# EAGLE library part XCV200ES_BG352 (library xilinx-xcv)
xcv200es_bg352 edit this description Auto generated by make-symbol-device-package-bsdl.ulp Rev. 26 Source: xcv200es_bg352.bsd
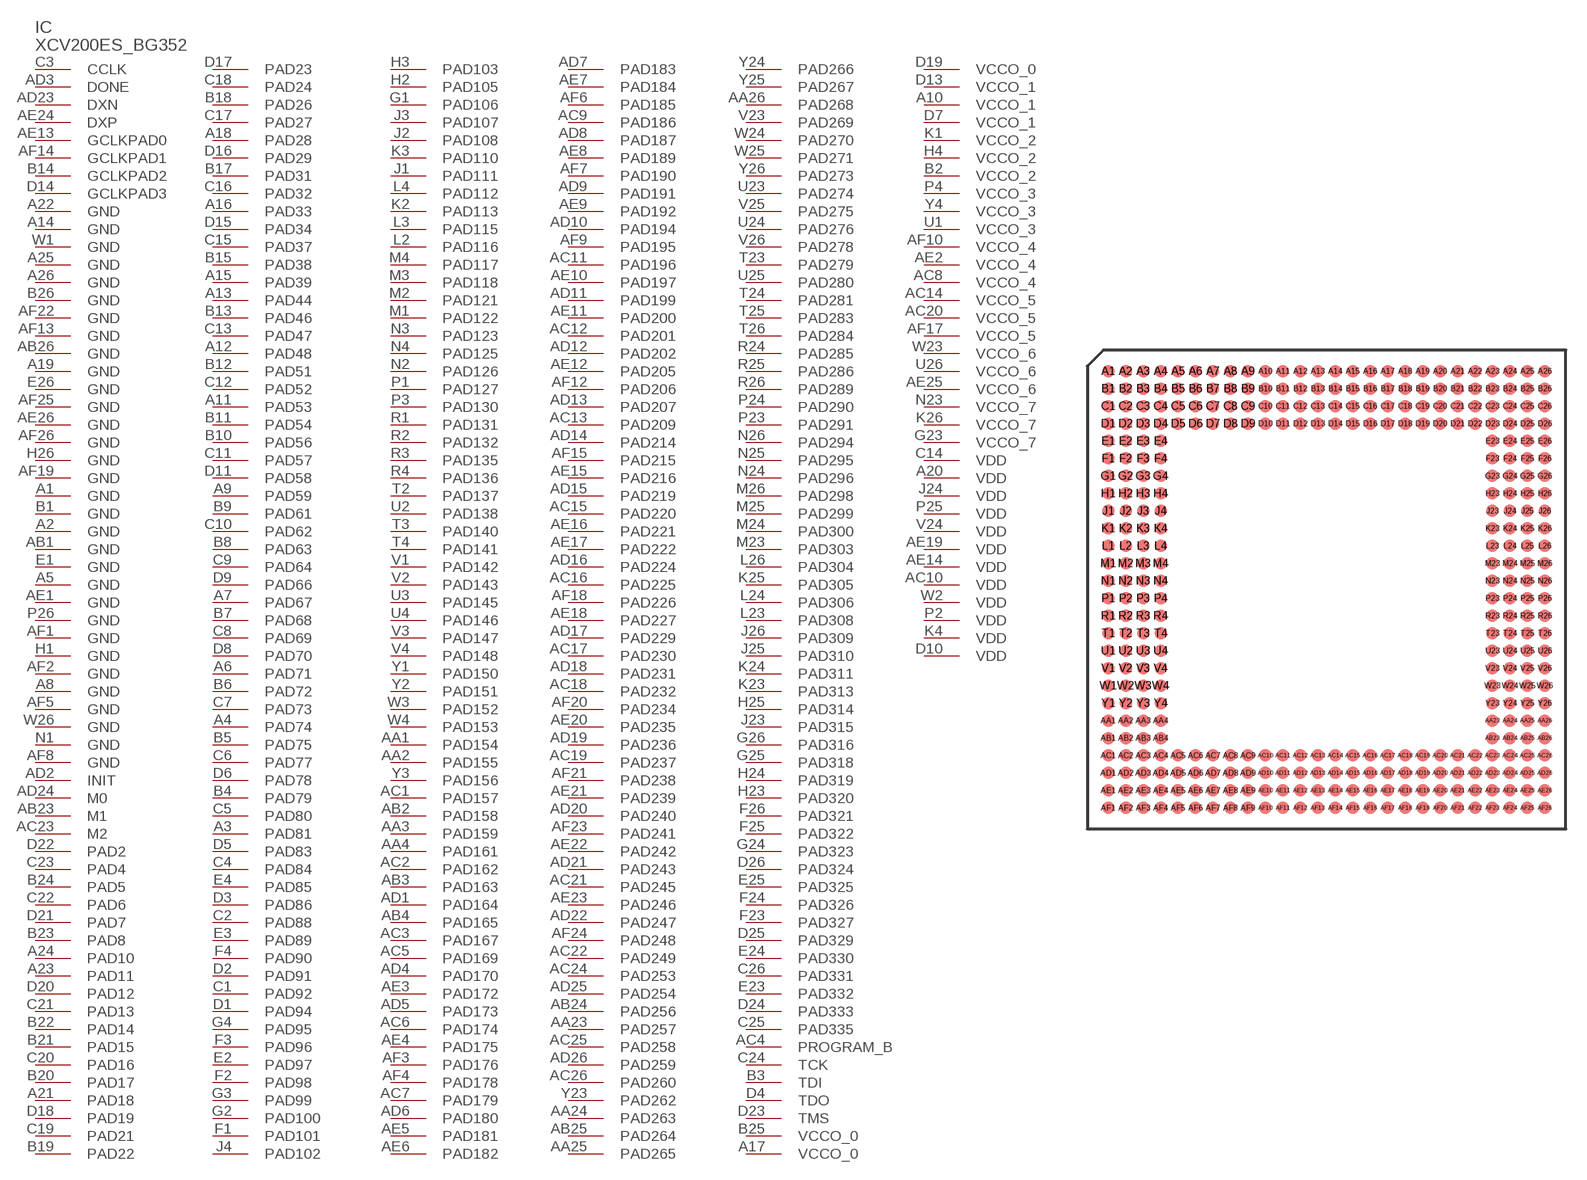
[diagram p61: symbol with the pads of BG352; footprint BG352]

Designator prefix IC

## XCV200ES_BG352  [BG352]
A1  GND  pwr
A2  GND  pwr
A3  PAD81
A4  PAD74
A5  GND  pwr
A6  PAD71
A7  PAD67
A8  GND  pwr
A9  PAD59
A10  VCCO_1  pwr
A11  PAD53
A12  PAD48
A13  PAD44
A14  GND  pwr
A15  PAD39
A16  PAD33
A17  VCCO_0  pwr
A18  PAD28
A19  GND  pwr
A20  VDD  pwr
A21  PAD18
A22  GND  pwr
A23  PAD11
A24  PAD10
A25  GND  pwr
A26  GND  pwr
AA1  PAD154
AA2  PAD155
AA3  PAD159
AA4  PAD161
AA23  PAD257
AA24  PAD263
AA25  PAD265
AA26  PAD268
AB1  GND  pwr
AB2  PAD158
AB3  PAD163
AB4  PAD165
AB23  M1  in
AB24  PAD256
AB25  PAD264
AB26  GND  pwr
AC1  PAD157
AC2  PAD162
AC3  PAD167
AC4  PROGRAM_B  in
AC5  PAD169
AC6  PAD174
AC7  PAD179
AC8  VCCO_4  pwr
AC9  PAD186
AC10  VDD  pwr
AC11  PAD196
AC12  PAD201
AC13  PAD209
AC14  VCCO_5  pwr
AC15  PAD220
AC16  PAD225
AC17  PAD230
AC18  PAD232
AC19  PAD237
AC20  VCCO_5  pwr
AC21  PAD245
AC22  PAD249
AC23  M2  in
AC24  PAD253
AC25  PAD258
AC26  PAD260
AD1  PAD164
AD2  INIT
AD3  DONE
AD4  PAD170
AD5  PAD173
AD6  PAD180
AD7  PAD183
AD8  PAD187
AD9  PAD191
AD10  PAD194
AD11  PAD199
AD12  PAD202
AD13  PAD207
AD14  PAD214
AD15  PAD219
AD16  PAD224
AD17  PAD229
AD18  PAD231
AD19  PAD236
AD20  PAD240
AD21  PAD243
AD22  PAD247
AD23  DXN  pas
AD24  M0  in
AD25  PAD254
AD26  PAD259
AE1  GND  pwr
AE2  VCCO_4  pwr
AE3  PAD172
AE4  PAD175
AE5  PAD181
AE6  PAD182
AE7  PAD184
AE8  PAD189
AE9  PAD192
AE10  PAD197
AE11  PAD200
AE12  PAD205
AE13  GCLKPAD0  in
AE14  VDD  pwr
AE15  PAD216
AE16  PAD221
AE17  PAD222
AE18  PAD227
AE19  VDD  pwr
AE20  PAD235
AE21  PAD239
AE22  PAD242
AE23  PAD246
AE24  DXP  pas
AE25  VCCO_6  pwr
AE26  GND  pwr
AF1  GND  pwr
AF2  GND  pwr
AF3  PAD176
AF4  PAD178
AF5  GND  pwr
AF6  PAD185
AF7  PAD190
AF8  GND  pwr
AF9  PAD195
AF10  VCCO_4  pwr
AF12  PAD206
AF13  GND  pwr
AF14  GCLKPAD1  in
AF15  PAD215
AF17  VCCO_5  pwr
AF18  PAD226
AF19  GND  pwr
AF20  PAD234
AF21  PAD238
AF22  GND  pwr
AF23  PAD241
AF24  PAD248
AF25  GND  pwr
AF26  GND  pwr
B1  GND  pwr
B2  VCCO_2  pwr
B3  TDI  in
B4  PAD79
B5  PAD75
B6  PAD72
B7  PAD68
B8  PAD63
B9  PAD61
B10  PAD56
B11  PAD54
B12  PAD51
B13  PAD46
B14  GCLKPAD2  in
B15  PAD38
B17  PAD31
B18  PAD26
B19  PAD22
B20  PAD17
B21  PAD15
B22  PAD14
B23  PAD8
B24  PAD5
B25  VCCO_0  pwr
B26  GND  pwr
C1  PAD92
C2  PAD88
C3  CCLK
C4  PAD84
C5  PAD80
C6  PAD77
C7  PAD73
C8  PAD69
C9  PAD64
C10  PAD62
C11  PAD57
C12  PAD52
C13  PAD47
C14  VDD  pwr
C15  PAD37
C16  PAD32
C17  PAD27
C18  PAD24
C19  PAD21
C20  PAD16
C21  PAD13
C22  PAD6
C23  PAD4
C24  TCK  in
C25  PAD335
C26  PAD331
D1  PAD94
D2  PAD91
D3  PAD86
D4  TDO  out
D5  PAD83
D6  PAD78
D7  VCCO_1  pwr
D8  PAD70
D9  PAD66
D10  VDD  pwr
D11  PAD58
D13  VCCO_1  pwr
D14  GCLKPAD3  in
D15  PAD34
D16  PAD29
D17  PAD23
D18  PAD19
D19  VCCO_0  pwr
D20  PAD12
D21  PAD7
D22  PAD2
D23  TMS  in
D24  PAD333
D25  PAD329
D26  PAD324
E1  GND  pwr
E2  PAD97
E3  PAD89
E4  PAD85
E23  PAD332
E24  PAD330
E25  PAD325
E26  GND  pwr
F1  PAD101
F2  PAD98
F3  PAD96
F4  PAD90
F23  PAD327
F24  PAD326
F25  PAD322
F26  PAD321
G1  PAD106
G2  PAD100
G3  PAD99
G4  PAD95
G23  VCCO_7  pwr
G24  PAD323
G25  PAD318
G26  PAD316
H1  GND  pwr
H2  PAD105
H3  PAD103
H4  VCCO_2  pwr
H23  PAD320
H24  PAD319
H25  PAD314
H26  GND  pwr
J1  PAD111
J2  PAD108
J3  PAD107
J4  PAD102
J23  PAD315
J24  VDD  pwr
J25  PAD310
J26  PAD309
K1  VCCO_2  pwr
K2  PAD113
K3  PAD110
K4  VDD  pwr
K23  PAD313
K24  PAD311
K25  PAD305
K26  VCCO_7  pwr
L2  PAD116
L3  PAD115
L4  PAD112
L23  PAD308
L24  PAD306
L26  PAD304
M1  PAD122
M2  PAD121
M3  PAD118
M4  PAD117
M23  PAD303
M24  PAD300
M25  PAD299
M26  PAD298
N1  GND  pwr
N2  PAD126
N3  PAD123
N4  PAD125
N23  VCCO_7  pwr
N24  PAD296
N25  PAD295
N26  PAD294
P1  PAD127
P2  VDD  pwr
P3  PAD130
P4  VCCO_3  pwr
P23  PAD291
P24  PAD290
P25  VDD  pwr
P26  GND  pwr
R1  PAD131
R2  PAD132
R3  PAD135
R4  PAD136
R24  PAD285
R25  PAD286
R26  PAD289
T2  PAD137
T3  PAD140
T4  PAD141
T23  PAD279
T24  PAD281
T25  PAD283
T26  PAD284
U1  VCCO_3  pwr
U2  PAD138
U3  PAD145
U4  PAD146
U23  PAD274
U24  PAD276
U25  PAD280
U26  VCCO_6  pwr
V1  PAD142
V2  PAD143
V3  PAD147
V4  PAD148
V23  PAD269
V24  VDD  pwr
V25  PAD275
V26  PAD278
W1  GND  pwr
W2  VDD  pwr
W3  PAD152
W4  PAD153
W23  VCCO_6  pwr
W24  PAD270
W25  PAD271
W26  GND  pwr
Y1  PAD150
Y2  PAD151
Y3  PAD156
Y4  VCCO_3  pwr
Y23  PAD262
Y24  PAD266
Y25  PAD267
Y26  PAD273

## Footprint BG352 (pad centres in mm)
xcv100e_bg352 edit this description Auto generated by make-symbol-device-package-bsdl.ulp Rev. 26 Source: xcv100e_bg352.bsd
smd 0.9 x 0.9: A1 -15.875,15.875; A2 -14.605,15.875; A3 -13.335,15.875; A4 -12.065,15.875; A5 -10.795,15.875; A6 -9.525,15.875; A7 -8.255,15.875; A8 -6.985,15.875; A9 -5.715,15.875; A10 -4.445,15.875; A11 -3.175,15.875; A12 -1.905,15.875; A13 -0.635,15.875; A14 0.635,15.875; A15 1.905,15.875; A16 3.175,15.875; A17 4.445,15.875; A18 5.715,15.875; A19 6.985,15.875; A20 8.255,15.875; A21 9.525,15.875; A22 10.795,15.875; A23 12.065,15.875; A24 13.335,15.875; A25 14.605,15.875; A26 15.875,15.875; AA1 -15.875,-9.525; AA2 -14.605,-9.525; AA3 -13.335,-9.525; AA4 -12.065,-9.525; AA23 12.065,-9.525; AA24 13.335,-9.525; AA25 14.605,-9.525; AA26 15.875,-9.525; AB1 -15.875,-10.795; AB2 -14.605,-10.795; AB3 -13.335,-10.795; AB4 -12.065,-10.795; AB23 12.065,-10.795; AB24 13.335,-10.795; AB25 14.605,-10.795; AB26 15.875,-10.795; AC1 -15.875,-12.065; AC2 -14.605,-12.065; AC3 -13.335,-12.065; AC4 -12.065,-12.065; AC5 -10.795,-12.065; AC6 -9.525,-12.065; AC7 -8.255,-12.065; AC8 -6.985,-12.065; AC9 -5.715,-12.065; AC10 -4.445,-12.065; AC11 -3.175,-12.065; AC12 -1.905,-12.065; AC13 -0.635,-12.065; AC14 0.635,-12.065; AC15 1.905,-12.065; AC16 3.175,-12.065; AC17 4.445,-12.065; AC18 5.715,-12.065; AC19 6.985,-12.065; AC20 8.255,-12.065; AC21 9.525,-12.065; AC22 10.795,-12.065; AC23 12.065,-12.065; AC24 13.335,-12.065; AC25 14.605,-12.065; AC26 15.875,-12.065; AD1 -15.875,-13.335; AD2 -14.605,-13.335; AD3 -13.335,-13.335; AD4 -12.065,-13.335; AD5 -10.795,-13.335; AD6 -9.525,-13.335; AD7 -8.255,-13.335; AD8 -6.985,-13.335; AD9 -5.715,-13.335; AD10 -4.445,-13.335; AD11 -3.175,-13.335; AD12 -1.905,-13.335; AD13 -0.635,-13.335; AD14 0.635,-13.335; AD15 1.905,-13.335; AD16 3.175,-13.335; AD17 4.445,-13.335; AD18 5.715,-13.335; AD19 6.985,-13.335; AD20 8.255,-13.335; AD21 9.525,-13.335; AD22 10.795,-13.335; AD23 12.065,-13.335; AD24 13.335,-13.335; AD25 14.605,-13.335; AD26 15.875,-13.335; AE1 -15.875,-14.605; AE2 -14.605,-14.605; AE3 -13.335,-14.605; AE4 -12.065,-14.605; AE5 -10.795,-14.605; AE6 -9.525,-14.605; AE7 -8.255,-14.605; AE8 -6.985,-14.605; AE9 -5.715,-14.605; AE10 -4.445,-14.605; AE11 -3.175,-14.605; AE12 -1.905,-14.605; AE13 -0.635,-14.605; AE14 0.635,-14.605; AE15 1.905,-14.605; AE16 3.175,-14.605; AE17 4.445,-14.605; AE18 5.715,-14.605; AE19 6.985,-14.605; AE20 8.255,-14.605; AE21 9.525,-14.605; AE22 10.795,-14.605; AE23 12.065,-14.605; AE24 13.335,-14.605; AE25 14.605,-14.605; AE26 15.875,-14.605; AF1 -15.875,-15.875; AF2 -14.605,-15.875; AF3 -13.335,-15.875; AF4 -12.065,-15.875; AF5 -10.795,-15.875; AF6 -9.525,-15.875; AF7 -8.255,-15.875; AF8 -6.985,-15.875; AF9 -5.715,-15.875; AF10 -4.445,-15.875; AF11 -3.175,-15.875; AF12 -1.905,-15.875; AF13 -0.635,-15.875; AF14 0.635,-15.875; AF15 1.905,-15.875; AF16 3.175,-15.875; AF17 4.445,-15.875; AF18 5.715,-15.875; AF19 6.985,-15.875; AF20 8.255,-15.875; AF21 9.525,-15.875; AF22 10.795,-15.875; AF23 12.065,-15.875; AF24 13.335,-15.875; AF25 14.605,-15.875; AF26 15.875,-15.875; B1 -15.875,14.605; B2 -14.605,14.605; B3 -13.335,14.605; B4 -12.065,14.605; B5 -10.795,14.605; B6 -9.525,14.605; B7 -8.255,14.605; B8 -6.985,14.605; B9 -5.715,14.605; B10 -4.445,14.605; B11 -3.175,14.605; B12 -1.905,14.605; B13 -0.635,14.605; B14 0.635,14.605; B15 1.905,14.605; B16 3.175,14.605; B17 4.445,14.605; B18 5.715,14.605; B19 6.985,14.605; B20 8.255,14.605; B21 9.525,14.605; B22 10.795,14.605; B23 12.065,14.605; B24 13.335,14.605; B25 14.605,14.605; B26 15.875,14.605; C1 -15.875,13.335; C2 -14.605,13.335; C3 -13.335,13.335; C4 -12.065,13.335; C5 -10.795,13.335; C6 -9.525,13.335; C7 -8.255,13.335; C8 -6.985,13.335; C9 -5.715,13.335; C10 -4.445,13.335; C11 -3.175,13.335; C12 -1.905,13.335; C13 -0.635,13.335; C14 0.635,13.335; C15 1.905,13.335; C16 3.175,13.335; C17 4.445,13.335; C18 5.715,13.335; C19 6.985,13.335; C20 8.255,13.335; C21 9.525,13.335; C22 10.795,13.335; C23 12.065,13.335; C24 13.335,13.335; C25 14.605,13.335; C26 15.875,13.335; D1 -15.875,12.065; D2 -14.605,12.065; D3 -13.335,12.065; D4 -12.065,12.065; D5 -10.795,12.065; D6 -9.525,12.065; D7 -8.255,12.065; D8 -6.985,12.065; D9 -5.715,12.065; D10 -4.445,12.065; D11 -3.175,12.065; D12 -1.905,12.065; D13 -0.635,12.065; D14 0.635,12.065; D15 1.905,12.065; D16 3.175,12.065; D17 4.445,12.065; D18 5.715,12.065; D19 6.985,12.065; D20 8.255,12.065; D21 9.525,12.065; D22 10.795,12.065; D23 12.065,12.065; D24 13.335,12.065; D25 14.605,12.065; D26 15.875,12.065; E1 -15.875,10.795; E2 -14.605,10.795; E3 -13.335,10.795; E4 -12.065,10.795; E23 12.065,10.795; E24 13.335,10.795; E25 14.605,10.795; E26 15.875,10.795; F1 -15.875,9.525; F2 -14.605,9.525; F3 -13.335,9.525; F4 -12.065,9.525; F23 12.065,9.525; F24 13.335,9.525; F25 14.605,9.525; F26 15.875,9.525; G1 -15.875,8.255; G2 -14.605,8.255; G3 -13.335,8.255; G4 -12.065,8.255; G23 12.065,8.255; G24 13.335,8.255; G25 14.605,8.255; G26 15.875,8.255; H1 -15.875,6.985; H2 -14.605,6.985; H3 -13.335,6.985; H4 -12.065,6.985; H23 12.065,6.985; H24 13.335,6.985; H25 14.605,6.985; H26 15.875,6.985; J1 -15.875,5.715; J2 -14.605,5.715; J3 -13.335,5.715; J4 -12.065,5.715; J23 12.065,5.715; J24 13.335,5.715; J25 14.605,5.715; J26 15.875,5.715; K1 -15.875,4.445; K2 -14.605,4.445; K3 -13.335,4.445; K4 -12.065,4.445; K23 12.065,4.445; K24 13.335,4.445; K25 14.605,4.445; K26 15.875,4.445; L1 -15.875,3.175; L2 -14.605,3.175; L3 -13.335,3.175; L4 -12.065,3.175; L23 12.065,3.175; L24 13.335,3.175; L25 14.605,3.175; L26 15.875,3.175; M1 -15.875,1.905; M2 -14.605,1.905; M3 -13.335,1.905; M4 -12.065,1.905; M23 12.065,1.905; M24 13.335,1.905; M25 14.605,1.905; M26 15.875,1.905; N1 -15.875,0.635; N2 -14.605,0.635; N3 -13.335,0.635; N4 -12.065,0.635; N23 12.065,0.635; N24 13.335,0.635; N25 14.605,0.635; N26 15.875,0.635; P1 -15.875,-0.635; P2 -14.605,-0.635; P3 -13.335,-0.635; P4 -12.065,-0.635; P23 12.065,-0.635; P24 13.335,-0.635; P25 14.605,-0.635; P26 15.875,-0.635; R1 -15.875,-1.905; R2 -14.605,-1.905; R3 -13.335,-1.905; R4 -12.065,-1.905; R23 12.065,-1.905; R24 13.335,-1.905; R25 14.605,-1.905; R26 15.875,-1.905; T1 -15.875,-3.175; T2 -14.605,-3.175; T3 -13.335,-3.175; T4 -12.065,-3.175; T23 12.065,-3.175; T24 13.335,-3.175; T25 14.605,-3.175; T26 15.875,-3.175; U1 -15.875,-4.445; U2 -14.605,-4.445; U3 -13.335,-4.445; U4 -12.065,-4.445; U23 12.065,-4.445; U24 13.335,-4.445; U25 14.605,-4.445; U26 15.875,-4.445; V1 -15.875,-5.715; V2 -14.605,-5.715; V3 -13.335,-5.715; V4 -12.065,-5.715; V23 12.065,-5.715; V24 13.335,-5.715; V25 14.605,-5.715; V26 15.875,-5.715; W1 -15.875,-6.985; W2 -14.605,-6.985; W3 -13.335,-6.985; W4 -12.065,-6.985; W23 12.065,-6.985; W24 13.335,-6.985; W25 14.605,-6.985; W26 15.875,-6.985; Y1 -15.875,-8.255; Y2 -14.605,-8.255; Y3 -13.335,-8.255; Y4 -12.065,-8.255; Y23 12.065,-8.255; Y24 13.335,-8.255; Y25 14.605,-8.255; Y26 15.875,-8.255